# Altium footprint library MyPcbLib.PcbLib: 65 footprints (part 3 of 5)
Each footprint in its own frame and in the unit in brackets; x right, y up, seen from the top. Pads: shape width x height; smd on the part's side, far side on the other; paste and mask are expansions set on the pad; w line width, h text height; cw(c..) or ccw(c..) is an arc to the next point about the centre after c.
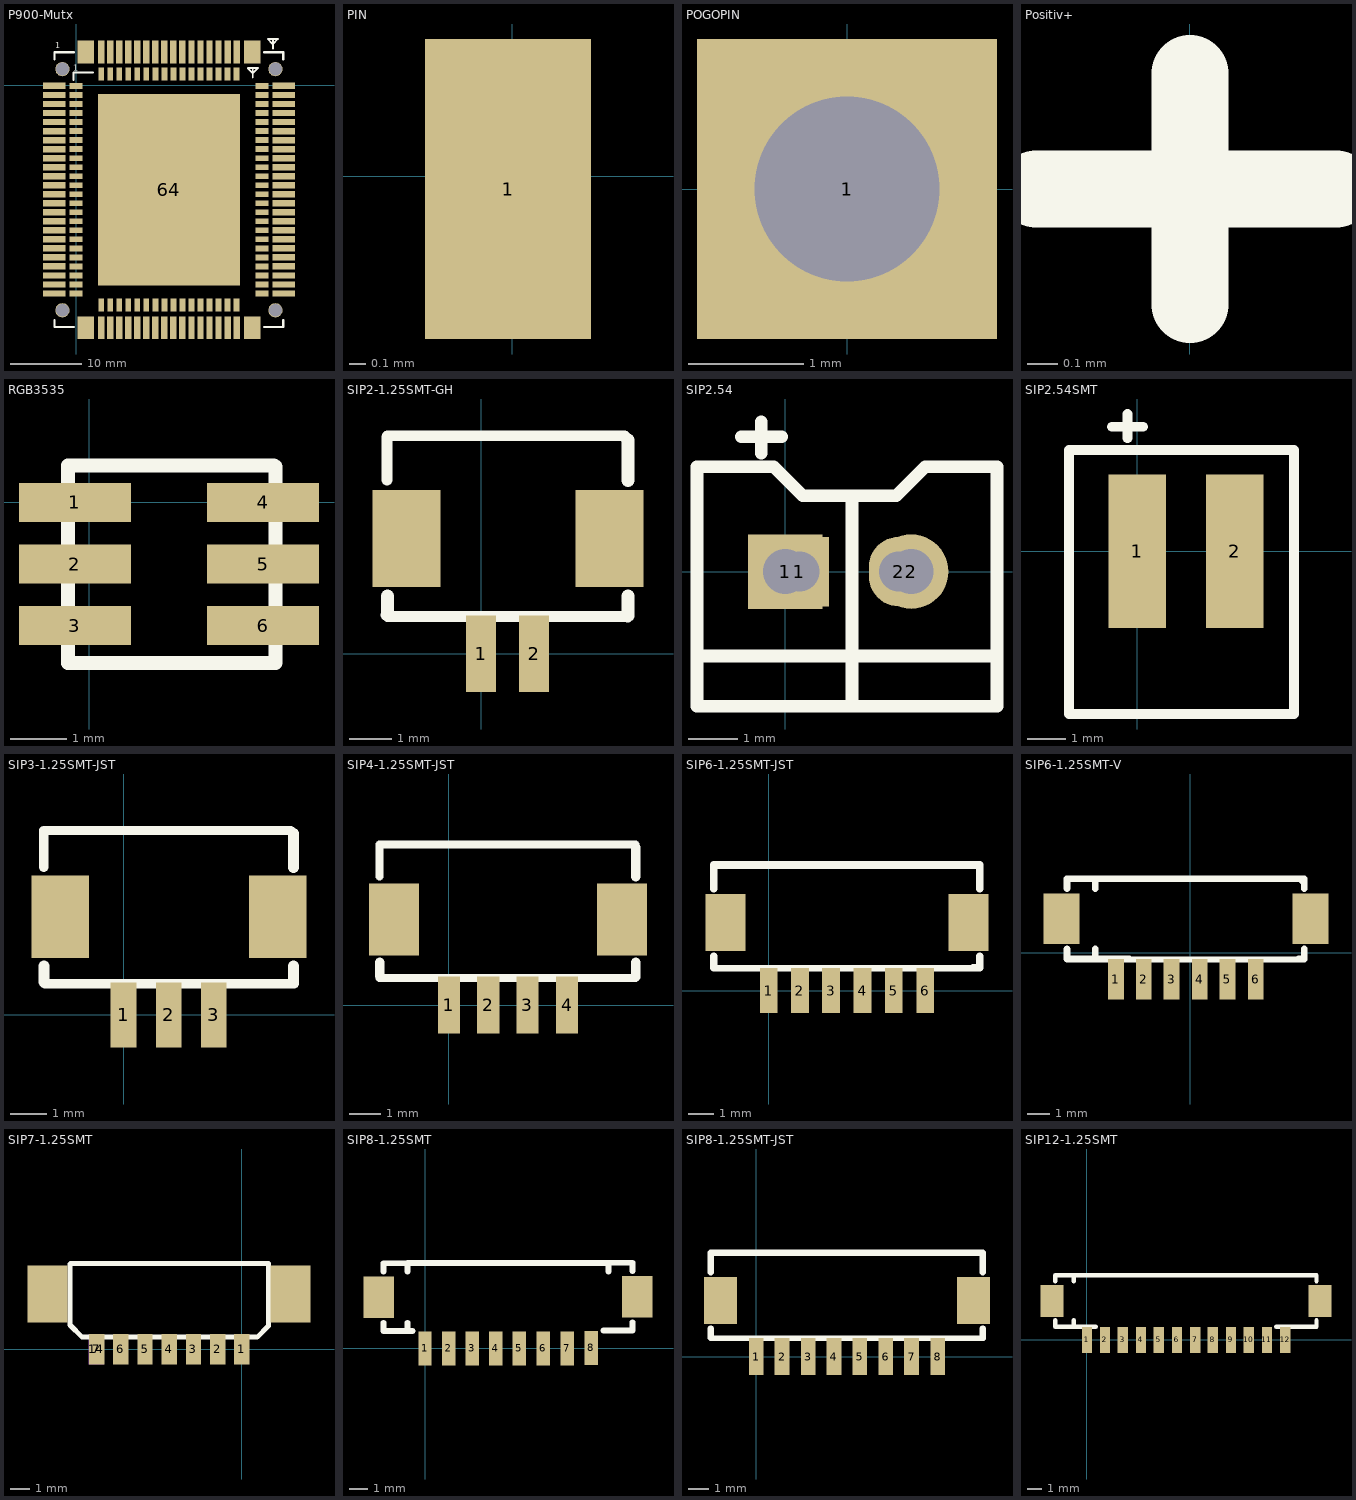
[diagram p2: the footprints below, top view; thin cyan lines are the x and y axes]

## P900-Mutx [mm]
pads (169):
  rect 3.2x0.9 smd: 1(-3.074,-0.076) 2(-3.074,-1.346) 3(-3.074,-2.616) 4(-3.074,-3.886) 5(-3.074,-5.156) 6(-3.074,-6.426) 7(-3.074,-7.696) 8(-3.074,-8.966) 9(-3.074,-10.236) 10(-3.074,-11.506) 11(-3.074,-12.776) 12(-3.074,-14.046) 13(-3.074,-15.316) 14(-3.074,-16.586) 15(-3.074,-17.856) 16(-3.074,-19.126) 17(-3.074,-20.396) 18(-3.074,-21.666) 19(-3.074,-22.936) 20(-3.074,-24.206) 21(-3.074,-25.476) 22(-3.074,-26.746) 23(-3.074,-28.016) 24(-3.074,-29.286) 41(29.207,-29.286) 42(29.207,-28.016) 43(29.207,-26.746) 44(29.207,-25.476) 45(29.207,-24.206) 46(29.207,-22.936) 47(29.207,-21.666) 48(29.207,-20.396) 49(29.207,-19.126) 50(29.207,-17.856) 51(29.207,-16.586) 52(29.207,-15.316) 53(29.207,-14.046) 54(29.207,-12.776) 55(29.207,-11.506) 56(29.207,-10.236) 57(29.207,-8.966) 58(29.207,-7.696) 59(29.207,-6.426) 60(29.207,-5.156) 61(29.207,-3.886) 62(29.207,-2.616) 63(29.207,-1.346) 64(29.207,-0.076)
  rect 1.83x0.81 smd: 1(-0.024,-0.076) 2(-0.024,-1.346) 3(-0.024,-2.616) 4(-0.024,-3.886) 5(-0.024,-5.156) 6(-0.024,-6.426) 7(-0.024,-7.696) 8(-0.024,-8.966) 9(-0.024,-10.236) 10(-0.024,-11.506) 11(-0.024,-12.776) 12(-0.024,-14.046) 13(-0.024,-15.316) 14(-0.024,-16.586) 15(-0.024,-17.856) 16(-0.024,-19.126) 17(-0.024,-20.396) 18(-0.024,-21.666) 19(-0.024,-22.936) 20(-0.024,-24.206) 21(-0.024,-25.476) 22(-0.024,-26.746) 23(-0.024,-28.016) 24(-0.024,-29.286) 41(26.136,-29.286) 42(26.136,-28.016) 43(26.136,-26.746) 44(26.136,-25.476) 45(26.136,-24.206) 46(26.136,-22.936) 47(26.136,-21.666) 48(26.136,-20.396) 49(26.136,-19.126) 50(26.136,-17.856) 51(26.136,-16.586) 52(26.136,-15.316) 53(26.136,-14.046) 54(26.136,-12.776) 55(26.136,-11.506) 56(26.136,-10.236) 57(26.136,-8.966) 58(26.136,-7.696) 59(26.136,-6.426) 60(26.136,-5.156) 61(26.136,-3.886) 62(26.136,-2.616) 63(26.136,-1.346) 64(26.136,-0.076)
  rect 0.9x3.2 smd: 1(13.689,4.698) 25(3.529,-34.086) 26(4.799,-34.086) 27(6.069,-34.086) 28(7.339,-34.086) 29(8.609,-34.086) 30(9.879,-34.086) 31(11.149,-34.086) 32(12.419,-34.086) 33(13.689,-34.086) 34(14.959,-34.086) 35(16.229,-34.086) 36(17.499,-34.086) 37(18.769,-34.086) 38(20.039,-34.086) 39(21.309,-34.086) 40(22.579,-34.086) 65(22.579,4.698) 66(21.309,4.698) 67(20.039,4.698) 68(18.769,4.698) 69(17.499,4.698) 70(16.229,4.698) 71(14.959,4.698) 73(12.419,4.698) 74(11.149,4.698) 75(9.879,4.698) 76(8.609,4.698) 77(7.339,4.699) 78(6.069,4.698) 79(4.799,4.699) 80(3.529,4.699)
  rect 0.81x1.83 smd: 1(13.691,1.574) 25(3.531,-30.936) 26(4.801,-30.936) 27(6.071,-30.936) 28(7.341,-30.936) 29(8.611,-30.936) 30(9.881,-30.936) 31(11.151,-30.936) 32(12.421,-30.936) 33(13.691,-30.936) 34(14.961,-30.936) 35(16.231,-30.936) 36(17.501,-30.936) 37(18.771,-30.936) 38(20.041,-30.936) 39(21.311,-30.936) 40(22.581,-30.936) 65(22.581,1.574) 66(21.311,1.574) 67(20.041,1.574) 68(18.771,1.574) 69(17.501,1.574) 70(16.231,1.574) 71(14.961,1.574) 73(12.421,1.574) 74(11.151,1.574) 75(9.881,1.574) 76(8.611,1.574) 77(7.341,1.574) 78(6.071,1.574) 79(4.801,1.574) 80(3.531,1.574)
  rect 20x27 smd: 64(13.056,-14.681)
  round 2 hole 1.8: ""(-1.933,-31.648) ""(-1.932,2.286) ""(28.04,2.286) ""(28.04,-31.648)
  rect 2.3x3.2 smd: ""(1.344,-34.087) ""(1.344,4.699) ""(24.763,-34.087) ""(24.763,4.699)
Top Overlay:
  lines w0.254: 24.865,1.092 24.865,2.438 ; 27.684,5.182 27.684,6.528 ; 24.865,2.438 24.153,2.438 24.865,1.727 25.576,2.438 24.865,2.438 ; 27.684,6.528 28.395,6.528 27.684,5.817 26.973,6.528 27.684,6.528
  lines w0.305: -3.045,3.652 -3.045,4.662 -0.313,4.662 ; -3.039,-33.001 -3.039,-34.011 -0.307,-34.011 ; -0.378,0.782 -0.378,1.792 2.354,1.792 ; 26.414,-34.011 29.146,-34.011 29.146,-33.001 ; 26.414,4.674 29.146,4.674 29.146,3.664
  text "1" at -0.406,2.032 h0.81
  text "1" at -2.974,5.232 h0.81
Mechanical 4:
  circle w0.127: c-1.931,2.289 r0.85
  circle w0.127: c28.038,2.289 r0.85
3D body "零件": height 5.9, standoff -1.2, extent -3.533,-34.518 29.667,5.182
3D body "pico series radio.step": height 3.3, standoff -0.05, extent -0.27,-31.21 26.4,1.81

## PIN [mil]
pads (1):
  rect 39.37x71 smd: 1(-1,-3)

## POGOPIN [mm]
pads (1):
  rect 2.6x2.6 hole 1.6: 1(0,0)

## Positiv+ [mm]
Top Overlay:
  lines w0.254: -0.508,0 0,0 0.483,0 ; 0,-0.381 0,0.381

## RGB3535 [mm]
pads (6):
  rect 2x0.7 smd: 1(-0.254,0) 2(-0.254,-1.1) 3(-0.254,-2.2) 4(3.103,0) 5(3.103,-1.1) 6(3.103,-2.2)
Top Overlay:
  lines w0.254: -0.381,-2.87 3.294,-2.87 ; -0.381,-2.84 -0.381,0.66 3.294,0.66 ; 3.327,-2.865 3.327,0.635

## SIP2-1.25SMT-GH [mil]
pads (4):
  rect 28x71 smd: 1(0,0) 2(49.21,0)
  rect 63x90 smd: ""(-69,107) ""(119,107)
Top Overlay:
  lines w10: -88,36 -86.5,34.5 136.5,34.5 ; -87,161 -87,201 ; -86.61,202 133,202 137,198 ; 133,201 137,197 ; 136,34 137,35
  lines w12.01: -86.61,36 -86.61,53.58 ; 136,198 136.03,160.58 ; 136.03,36 136.03,53.58 136.03,36

## SIP2.54 [mm]
pads (4):
  rect 1.5x1.5 hole 0.9: 1(0,0)
  rect 1.2x1.4 hole 0.8: 1(0.286,0)
  oval 1.2x1.4 hole 0.8: 2(2.286,0)
  round 1.5 hole 0.9: 2(2.54,0)
Top Overlay:
  lines w0.254: -1.753,-1.702 4.191,-1.702 ; -0.889,2.718 -0.076,2.718 ; -0.483,2.388 -0.483,3.023 ; 1.346,-2.591 1.346,1.422 ; -1.778,-2.718 -1.778,2.108 -0.229,2.108 0.356,1.524 2.235,1.524 2.819,2.108 4.267,2.108 4.267,-2.718 -1.778,-2.718
3D body "User Library-53047-0210.STEP": height 3.81, standoff -2.69, extent -0.779,-1.189 3.471,2.311

## SIP2.54SMT [mm]
pads (2):
  rect 1.5x4 all layers, no hole: 1(0,0) 2(2.54,0)
Top Overlay:
  lines w0.254: -0.66,3.251 0.152,3.251 ; -0.254,2.946 -0.254,3.581 ; -1.778,-4.242 4.089,-4.242 4.089,2.642 2.286,2.642 0.305,2.642 -1.778,2.642 -1.778,-4.242
3D body "User Library-53047-0210.STEP": height 3.5, standoff 0, extent -0.846,-4.19 3.404,2.31

## SIP3-1.25SMT-JST [mil]
pads (5):
  rect 28x71 smd: 1(0,0) 2(49.21,0) 3(98.43,0)
  rect 63x90 smd: ""(-69,107) ""(168,107)
Top Overlay:
  lines w10: -87,161 -87,201 182,201 186,197 ; -86,34 186,34 ; 185,34 186,35
  lines w12.01: -86.61,36 -86.61,53.58 ; 185,198 185.03,160.58 ; 185.03,36 185.03,53.58 185.03,36

## SIP4-1.25SMT-JST [mil]
pads (6):
  rect 28x71 smd: 1(0,0) 2(49.21,0) 3(98.43,0) 4(148.03,0)
  rect 63x90 smd: ""(-69,107) ""(217,107)
Top Overlay:
  lines w10: -87,34 234,34 235,35 ; -87,161 -87,201 ; -86.61,201 234.03,201
  lines w12.01: -86.61,36 -86.61,53.58 ; 234,198 234.03,160.58 ; 234.03,36 234.03,53.58 234.03,36

## SIP6-1.25SMT-JST [mil]
pads (8):
  rect 28x71 smd: 1(0,0) 2(49.21,0) 3(98.43,0) 4(148.03,0) 5(197.03,0) 6(247.03,0)
  rect 63x90 smd: ""(-68,107) ""(315,107)
Top Overlay:
  lines w10: -87,35 -42,35 ; -41,35 324.03,35
  lines w12: -86.61,198 333.03,198 -16.35,198
  lines w12.01: -86.61,36 -86.61,53.58 ; -86.61,160.58 -86.61,198 ; 322.8,36 333.03,36 ; 333.03,170 333.03,160.58 333.03,198 ; 333.03,36 333.03,53.58 333.03,36
3D body "DF13C-6P-1.25V.stp": height 187.78, standoff -1.2, extent -118.17,-1.91 360.17,191

## SIP6-1.25SMT-V [mil]
pads (8):
  rect 28x71 smd: 1(-131.03,-47) 2(-81.82,-47) 3(-32.61,-47) 4(17,-47) 5(66,-47) 6(116,-47)
  rect 63x90 smd: ""(-227.49,59.87) ""(213,60)
Top Overlay:
  lines w10: -114,-12 193,-12
  lines w12: -217.65,130.73 202,130.73 -167.65,130.73 194.27,130.73 202,123
  lines w12.01: -217.65,6.58 -217.65,-11 -157.42,-11 ; -217.65,113.58 -217.65,130.73 ; 191.77,-11 202,-11 ; 202,123 202,113.58 202,130.73 ; -167.65,-11 -167.65,6.58 -167.65,-11 ; -167.65,-11 -107.42,-11 -167.65,-11 ; 202,-11 202,6.58 202,-11 ; -167.65,113.58 -167.65,130.73 -167.65,113.58
3D body "DF13C-6P-1.25V.stp": height 187.78, standoff -1.2, extent -222.35,-62 256,130.91

## SIP7-1.25SMT [mm]
pads (10):
  rect 0.8x1.6 smd: 1(0,0) 2(-1.27,0) 3(-2.54,0) 4(-3.81,0) 5(-5.08,0) 6(-6.35,0) 7(-7.62,0)
  rect 0.8x1.6 on Mech13: 14(-7.645,0)
  rect 2.1x3 smd: ""(-10.195,2.9) ""(2.55,2.9)
Top Overlay:
  lines w0.254: -9.017,4.47 -9.017,1.27 -8.382,0.635 ; -8.992,4.496 1.397,4.496 1.397,1.219 0.813,0.635 ; -8.89,4.496 1.346,4.496 ; -8.382,0.635 0.813,0.635 ; -8.382,0.635 0.813,0.635

## SIP8-1.25SMT [mil]
pads (10):
  rect 28x71 smd: 1(0,0) 2(49.21,0) 3(98.43,0) 4(148.03,0) 5(197.03,0) 6(247.03,0) 7(297.03,0) 8(347.03,1)
  rect 63x87 smd: ""(-96.46,106.87) ""(443.03,107.87)
Top Overlay:
  lines w12: -86.61,177.73 333.03,177.73 -36.61,177.73 383.03,177.73 ; -36.61,178.73 383.03,178.73 13.39,178.73 433.03,178.73
  lines w12.01: -86.61,53.58 -86.61,36 -26.39,36 ; -86.61,160.58 -86.61,177.73 ; 372.8,37 433.03,37 433.03,54.58 ; 383.03,160.58 383.03,177.73 ; 433.03,161.58 433.03,178.73 ; -36.61,36 -36.61,53.58 -36.61,36 ; -36.61,160.58 -36.61,177.73 -36.61,160.58 ; 383.03,161.58 383.03,178.73 383.03,161.58
3D body "DF13C-6P-1.25V.stp": height 187.78, standoff -1.2, extent -67.14,-14.91 411.2,178

## SIP8-1.25SMT-JST [mil]
pads (10):
  rect 28x71 smd: 1(0,0) 2(49.21,0) 3(99,0) 4(148.21,0) 5(197.43,0) 6(247.03,0) 7(296.03,0) 8(346.03,0)
  rect 63x90 smd: ""(-68,107) ""(414,107)
Top Overlay:
  lines w10: -87,35 -42,35 ; -41,35 324.03,35 ; 12,35 57,35 ; 58,35 433,35
  lines w12: -86.61,198 333.03,198 -16.35,198 ; 12.39,198 432.03,198 82.65,198
  lines w12.01: -86.61,36 -86.61,53.58 ; -86.61,160.58 -86.61,198 ; 432.03,170 432.03,160.58 432.03,198 ; 432.03,36 432.03,53.58 432.03,36
3D body "DF13C-6P-1.25V.stp": height 187.78, standoff -1.2, extent -64.17,3.09 414.17,196

## SIP12-1.25SMT [mil]
pads (14):
  rect 28x71 smd: 1(0,0) 2(49.21,0) 3(98.43,0) 4(148.03,0) 5(197.03,0) 6(247.03,0) 7(297.03,0) 8(345.43,0) 9(395.03,0) 10(444.03,0) 11(494.03,0) 12(544.03,0)
  rect 63x87 smd: ""(-96.46,106.87) ""(640.03,106.87)
Top Overlay:
  lines w12: -86.61,177.73 333.03,177.73 -36.61,177.73 383.03,177.73 ; 160.39,177.73 580.03,177.73 210.39,177.73 630.03,177.73
  lines w12.01: -86.61,53.58 -86.61,36 -26.39,36 ; -86.61,160.58 -86.61,177.73 ; 569.8,36 630.03,36 630.03,53.58 ; 630.03,160.58 630.03,177.73 ; -36.61,36 -36.61,53.58 -36.61,36 ; -36.61,36 23.61,36 -36.61,36 ; -36.61,160.58 -36.61,177.73 -36.61,160.58 ; 519.8,36 580.03,36 519.8,36
3D body "DF13C-6P-1.25V.stp": height 187.78, standoff -1.2, extent 46.86,-10.91 525.2,182